# Altium schematic symbol library SEMATIK_LIB.SchLib: 632 symbols (part 18 of 21)
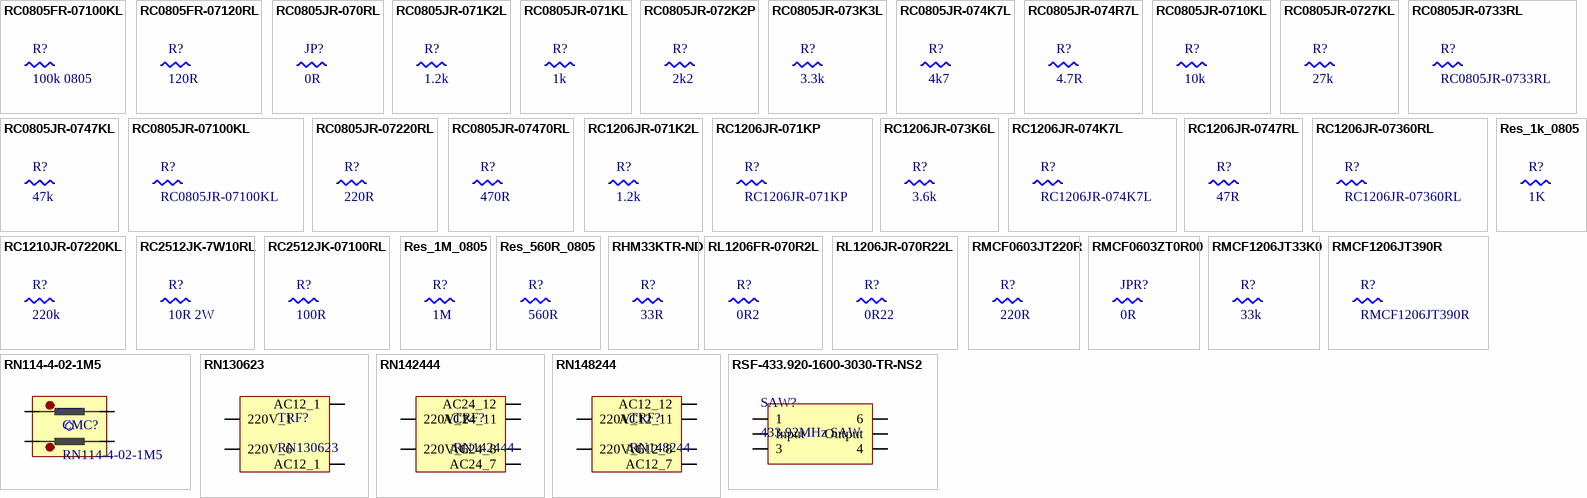
[diagram p33: symbols RC0805FR-07100KL to RSF-433.920-1600-3030-TR-NS2]

## RHM33KTR-ND
designator R?, comment 33R
RES SMD 33 OHM 5% 0.4W 0805; Manufacturer: Rohm Semiconductor; Manufacturer Part Number: ESR10EZPJ330; Power (Watts): 0.4W, 2/5W; Temperature Coefficient: ±200ppm/°C; Supplier 1: Digi-Key; RoHS: RoHS Compliant; Category: Resistors; Stock 1: 19272; Pricing 1: 1=0.1, 10=0.087, 100=0.0333, 1000=0.01464, 2500=0.01264 (USD); Packaging: Cut Tape (CT); Part Status: Active; Tolerance: ±5%; Composition: Thick Film; Features: Automotive AEC-Q200, Pulse Withstanding; Operating Temperature: -55°C ~ 155°C; Package / Case: 0805 (2012 Metric); Supplier Device Package: 0805; Size / Dimension: 0.079" L x 0.049" W (2.00mm x 1.25mm); Height - Seated (Max): 0.026" (0.65mm); Failure Rate: -; ComponentLink1URL: https://www.rohm.com/datasheet/ESR01MZPF/esr-e; ComponentLink1Description: https://www.rohm.com/datasheet/ESR01MZPF/esr-e; Supplier Part Number 1: RHM33KCT-ND
footprint R_0805
pins: 1, 2

## RL1206FR-070R2L
designator R?, comment 0R2
Res SMD 0.2 OHM 1% 1/4W 1206; Manufacturer: Yageo; Manufacturer Part Number: RL1206FR-070R2L; Resistance: 200mR; Power Rating: 250mW; Temperature Coefficient: 600ppm/°C; Supplier 1: Digi-Key; Stock 1: 92678; Pricing 1: 1 = 0,40000, 10 = 0,28700, 100 = 0,11490, 1000 = 0,05661, 2500 = 0,05245 (USD); RoHS: Yes; Case/Package: 1206; Case Code (Imperial): 1206; Case Code (Metric): 3216; Contact Plating: Tin,Matte; Min Operating Temperature: -55°C; Max Operating Temperature: 125°C; Packaging: Tape and Reel; Tolerance: 1%; Package Quantity: 1; Termination: SMD/SMT; Composition: Thick Film; Number of Terminations: 2; Max Power Dissipation: 250mW; Features: Moisture Resistant; Length: 0.122inch; Height: 0.026inch; Width: 1.6mm; Radiation Hardening: No; Lead Free: Lead Free; ComponentLink1URL: https://datasheet.ciiva.com/8886/pyu-rl-521-rohs-l-5-8886872.pdf?src-supplier=Avnet; ComponentLink1Description: https://datasheet.ciiva.com/8886/pyu-rl-521-rohs-l-5-8886872.pdf?src-supplier=Avnet; ComponentLink2URL: https://datasheet.ciiva.com/28393/pyu-rl-521-rohs-l-5-28393432.pdf?src-supplier=Avnet+Europe; ComponentLink2Description: https://datasheet.ciiva.com/28393/pyu-rl-521-rohs-l-5-28393432.pdf?src-supplier=Avnet+Europe; Supplier Part Number 1: 311-0.2LWCT-ND
footprint R_1206
footprint R_1206_NOSILK
pins: 1, 2

## RL1206JR-070R22L
designator R?, comment 0R22
Res SMD 0.22 OHM 5% 1/4W 1206; Manufacturer: Yageo; Manufacturer Part Number: RL1206JR-070R22L; Resistance: 220mR; Power Rating: 250mW; Temperature Coefficient: 600ppm/°C; Supplier 1: Digi-Key; RoHS: Yes; Category: Chip SMD Resistors; Stock 1: 5005; Pricing 1: 1=0,34000, 10=0,29000, 100=0,11350, 1000=0,04752, 2500=0,04356 (USD); Case/Package: 1206; Case Code (Imperial): 1206; Case Code (Metric): 3216; Contact Plating: Tin,Lead; Weight: 0.000571oz; Size Code: 1206; Min Operating Temperature: -55°C; Max Operating Temperature: 125°C; Tolerance: 5%; Packaging: Tape and Reel; Termination: SMD/SMT; Resistor Type: Thick Film; Package Quantity: 5000; Features: Moisture Resistant,Automotive AEC-Q200; Series: RL; Max Power Dissipation: 250mW; Number of Terminations: 2; Technology: THICK FILM; Construction: Rectangular; Length: 3.1mm; Width: 1.6mm; Height: 0.55mm; Depth: 1.6mm; Military Standard: Not; Lead Free: Lead Free; RoHS Compliant: Yes; ComponentLink1URL: https://datasheet.ciiva.com/15329/pyu-rl-521-rohs-l-5-15329110.pdf?src-supplier=Mouser; ComponentLink1Description: https://datasheet.ciiva.com/15329/pyu-rl-521-rohs-l-5-15329110.pdf?src-supplier=Mouser; Supplier Part Number 1: 13-RL1206JR-070R22LCT-ND
footprint R_1206
pins: 1, 2

## RMCF0603JT220R
designator R?, comment 220R
RES SMD 220 OHM 5% 1/10W 0603; Manufacturer: Stackpole Electronics; Manufacturer Part Number: RMCF0603JT220R; Max Power Dissipation: 100mW; Temperature Coefficient: 100ppm/°C; Supplier 1: Digi-Key; Stock 1: 231706; Pricing 1: 1 = 0,10000, 10 = 0,01400, 100 = 0,00580, 1000 = 0,00262, 2500 = 0,00228 (USD); RoHS: Yes; Mount: Surface Mount; Case/Package: 0603; Contact Plating: Tin,Matte; Case Code (Metric): 1608; Case Code (Imperial): 0603; Min Operating Temperature: -55°C; Max Operating Temperature: 155°C; Composition: Thick Film; Number of Terminations: 2; Military Standard: Not; Features: Automotive AEC-Q200; Resistance: 220R; Tolerance: 5%; Packaging: Tape and Reel; Power Rating: 100mW; Length: 1.55mm; Height: 0.022inch; Depth: 0.8mm; Width: 0.031inch; Radiation Hardening: No; Lead Free: Lead Free; ComponentLink1URL: https://datasheet.ciiva.com/26835/getdatasheetpartid-362043-26835658.pdf?src-supplier=Verical; ComponentLink1Description: https://datasheet.ciiva.com/26835/getdatasheetpartid-362043-26835658.pdf?src-supplier=Verical; Supplier Part Number 1: RMCF0603JT220RCT-ND
footprint R_0603
footprint R_0603_nosılk
footprint R_0603_short_silk
pins: 1, 2

## RMCF0603ZT0R00
designator JPR?, comment 0R
RES SMD 0 OHM JUMPER 0603 1/10W; Manufacturer: Stackpole Electronics; Manufacturer Part Number: RMCF0603ZT0R00; Resistance: 0mR; Power Rating: 100mW; Current Rating: 1A; Working Voltage: 75V; Supplier 1: Digi-Key; Stock 1: 2139035; Mount: Surface Mount; Case/Package: 0603; Case Code (Metric): 1608; Case Code (Imperial): 0603; Contact Plating: Tin,Matte; Min Operating Temperature: -55°C; Max Operating Temperature: 155°C; Packaging: Tape and Reel; Composition: Thick Film; Number of Terminations: 2; Military Standard: Not; Max Power Dissipation: 100mW; Features: Automotive AEC-Q200; Length: 1.55mm; Height: 0.022inch; Width: 0.031inch; Depth: 0.8mm; Radiation Hardening: No; Lead Free: Lead Free; Supplier Part Number 1: RMCF0603ZT0R00CT-ND
footprint R_0603
pins: 1, 2

## RMCF1206JT33K0
designator R?, comment 33k
RES SMD 33K OHM 5% 1/4W 1206; Manufacturer 1: Stackpole Electronics; Manufacturer Part Number 1: RMCF1206JT33K0; Resistance: 33kR; Power Rating: 250mW; Temperature Coefficient: 200ppm/°C; Supplier 1: Digi-Key; Description 1: RES SMD 33K OHM 5% 1/4W 1206; Stock 1: 48878; Pricing 1: 1=0.1, 10=0.028, 100=0.0116, 1000=0.0052, 2500=0.00452 (USD); Mount: Surface Mount; Case/Package: 1206; Case Code (Metric): 3216; Case Code (Imperial): 1206; Contact Plating: Tin,Matte; Min Operating Temperature: -55°C; Max Operating Temperature: 155°C; Packaging: Tape and Reel; Tolerance: 5%; Composition: Thick Film; Number of Terminations: 2; Military Standard: Not; Max Power Dissipation: 250mW; Features: Automotive AEC-Q200; Length: 0.126inch; Height: 0.028inch; Width: 0.063inch; Depth: 1.6mm; Radiation Hardening: No; Lead Free: Lead Free; ComponentLink1URL: https://www.verical.com/server-webapp/html/getDatasheet?partID=367370&src-supplier=Verical; ComponentLink1Description: https://www.verical.com/server-webapp/html/getDatasheet?partID=367370&src-supplier=Verical; Supplier Part Number 1: RMCF1206JT33K0CT-ND
footprint R_1206
pins: 1, 2

## RMCF1206JT390R
designator R?
RES SMD 390 OHM 5% 1/4W 1206; Manufacturer: Stackpole Electronics; Resistance: 390R; Power Rating: 250mW; Temperature Coefficient: 200ppm/°C; Supplier 1: Digi-Key; Manufacturer Part Number: RMCF1206JT390R; Stock 1: 44829; Pricing 1: 1=0.1, 10=0.028, 100=0.0116, 1000=0.0052, 2500=0.00452 (USD); Mount: Surface Mount; Case/Package: 1206; Case Code (Metric): 3216; Case Code (Imperial): 1206; Contact Plating: Matte,Tin; Min Operating Temperature: -55°C; Max Operating Temperature: 155°C; Packaging: Tape and Reel; Tolerance: 5%; Composition: Thick Film; Number of Terminations: 2; Military Standard: Not; Max Power Dissipation: 250mW; Features: Automotive AEC-Q200; Length: 0.126inch; Height: 0.028inch; Width: 0.063inch; Depth: 1.6mm; Radiation Hardening: No; Lead Free: Lead Free; Supplier Part Number 1: RMCF1206JT390RDKR-ND
footprint R_1206
pins: 1, 2

## RN114-4-02-1M5
designator CMC?
CMC 1.5MH 4A 2LN TH; Manufacturer 1: Schaffner; Number of Lines: 2; DC Resistance (DCR): 34mR; Voltage Rating (AC): 300V; Approvals: VDE,UR,ENEC; Supplier 1: Digi-Key; Manufacturer Part Number 1: RN114-4-02-1M5; Description 1: CMC 1.5MH 4A 2LN TH; Stock 1: 928; Pricing 1: 1=1.87, 10=1.728, 100=1.2096, 500=0.9792, 1000=0.8928, 2500=0.864 (USD); Mount: Through Hole; Min Operating Temperature: -40°C; Max Operating Temperature: 100°C; Packaging: Tray; Max Current Rating: 4A; Length: 0.886inch; Height: 0.531inch; Width: 0.846inch; Supplier Part Number 1: 817-2110-ND
footprint RN114-4/02
pins: 1 IN1, 2 OUT1, 3 IN2, 4 OUT2

## RN130623
designator TRF?
TRANSFORMER 2.8VA 9V EL30/18.5 ELKOM
footprint EL30/18.5
pins: 1 220V_1, 5 220V_6, 7 AC12_1, 9 AC12_1

## RN142444
designator TRF?
TRANSFORMER 8VA 2x12V EL42/20 ELKOM
footprint EL42/20
pins: 1 220V_1, 6 220V_6, 7 AC24_7, 8 AC24_8, 11 AC24_11, 12 AC24_12

## RN148244
designator TRF?
TRANSFORMER 10VA 2x12V EL48/20.5 ELKOM
footprint EL48/20.5
pins: 1 220V_1, 6 220V_6, 7 AC12_7, 8 AC12_8, 11 AC12_11, 12 AC12_12

## RSF-433.920-1600-3030-TR-NS2
designator SAW?, comment 433.92MHz SAW
FILTER SAW 433.92MHZ 6SMD; Manufacturer: Raltron Electronics; Manufacturer Part Number: RSF-433.920-1600-3030-TR-NS2; Supplier 1: Digi-Key; Stock 1: 865; Pricing 1: 1 = 1,36000, 10 = 1,31300, 25 = 0,96240, 50 = 0,94060, 100 = 0,91880, 250 = 0,83124, 500 = 0,80938 (USD); ComponentLink1URL: http://datasheet.octopart.com/RSF-433.920-1600-3030-TR-NS2-Raltron-Electronics-datasheet-137142251.pdf?src-supplier=Raltron+Electronics; ComponentLink1Description: http://datasheet.octopart.com/RSF-433.920-1600-3030-TR-NS2-Raltron-Electronics-datasheet-137142251.pdf?src-supplier=Raltron+Electronics; Supplier Part Number 1: 2151-RSF-433.920-1600-3030-TR-NS2CT-ND
footprint SAW_FILTER_RSF-433.920-1600-3030
pins: 1, 2 Input, 3, 4, 5 Output, 6

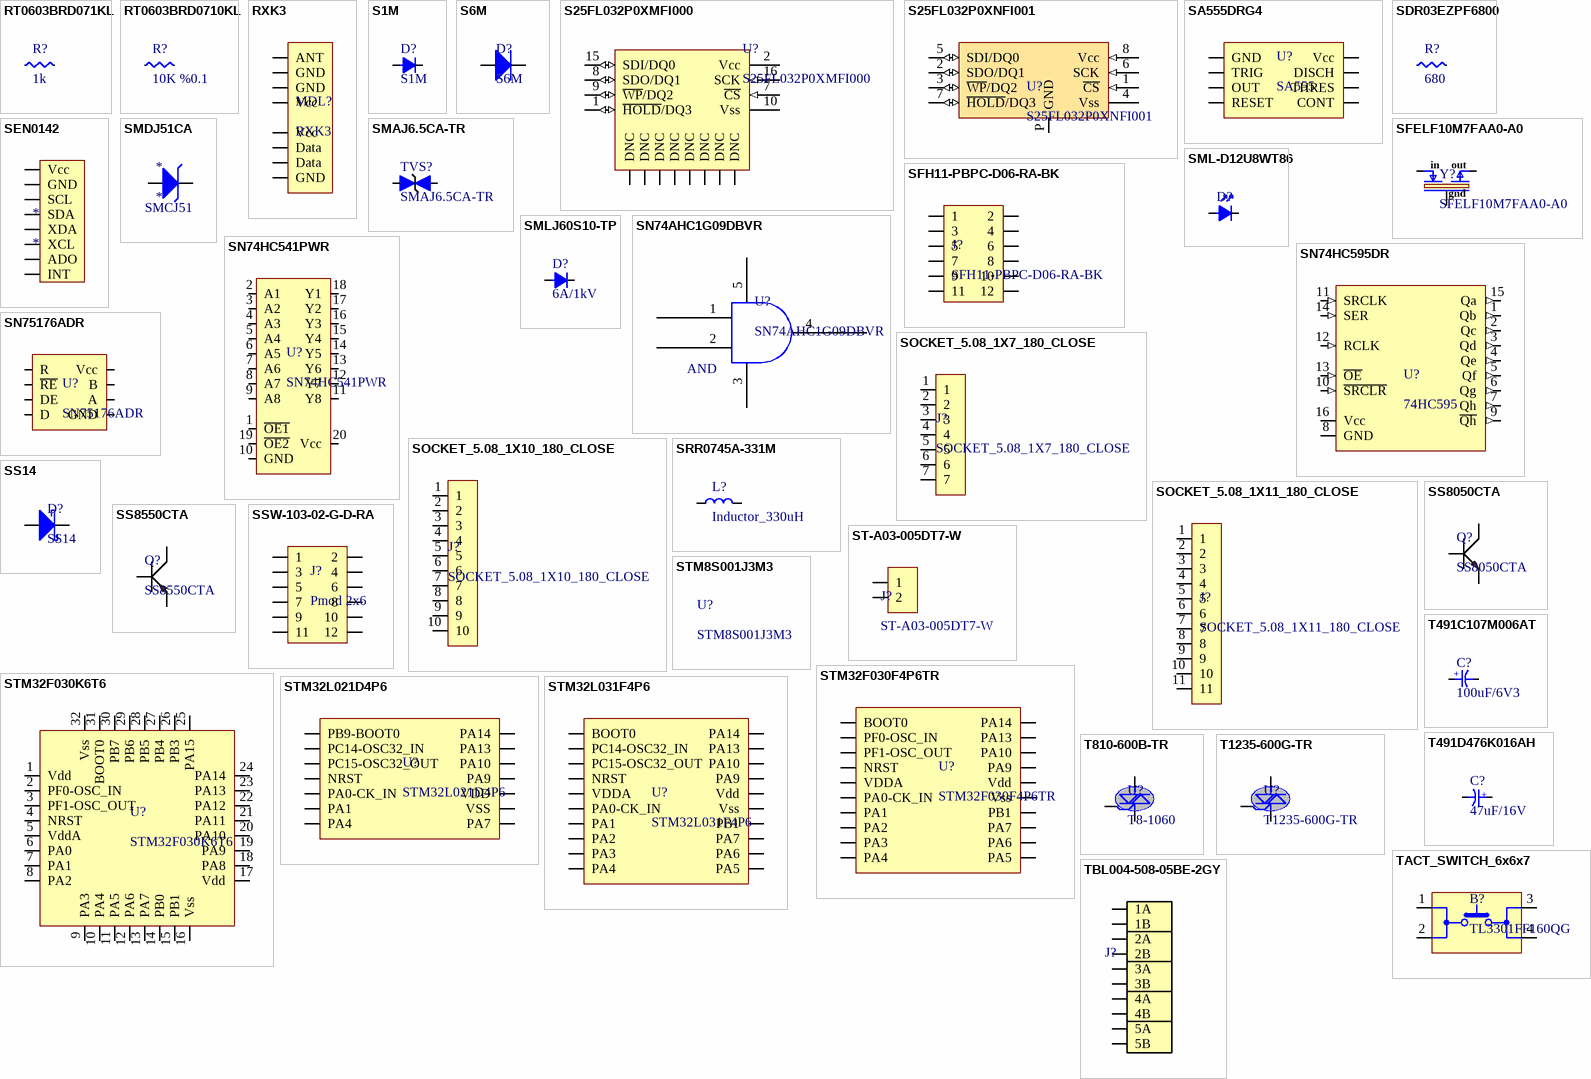
[diagram p14: symbols RT0603BRD071KL to TBL004-508-05BE-2GY]

## RT0603BRD071KL
designator R?, comment 1k
RES SMD 1K OHM 0.1% 1/10W 0603; Manufacturer: Yageo; Manufacturer Part Number: RT0603BRD071KL; Power (Watts): 0.1W, 1/10W; Temperature Coefficient: ±25ppm/°C; Supplier 1: Digi-Key; RoHS: RoHS Compliant; Category: Resistors; Stock 1: 133544; Pricing 1: 1=0.39, 10=0.332, 100=0.1298, 1000=0.05435, 2500=0.04982 (USD); Packaging: Cut Tape (CT); Part Status: Active; Tolerance: ±0.1%; Composition: Thin Film; Features: -; Operating Temperature: -55°C ~ 155°C; Package / Case: 0603 (1608 Metric); Supplier Device Package: 0603; Size / Dimension: 0.063" L x 0.032" W (1.60mm x 0.80mm); Height - Seated (Max): 0.022" (0.55mm); Failure Rate: -; ComponentLink1URL: http://www.yageo.com/documents/recent/PYu-RT_1-to-0.01_RoHS_L_9.pdf; ComponentLink1Description: http://www.yageo.com/documents/recent/PYu-RT_1-to-0.01_RoHS_L_9.pdf; Supplier Part Number 1: YAG1237CT-ND
footprint R_0603
pins: 1, 2

## RT0603BRD0710KL
designator R?, comment 10K %0.1
RES SMD 10K OHM 0.1% 1/10W 0603; Manufacturer: Yageo; Manufacturer Part Number: RT0603BRD0710KL; Resistance: 10kR; Power Rating: 100mW; Voltage Rating: 75V; Temperature Coefficient: 25ppm/°C; Supplier 1: Digi-Key; RoHS: Yes; Category: Chip SMD Resistors; Stock 1: 200225; Pricing 1: 1=0,34000, 10=0,28800, 100=0,11260, 500=0,06812, 1000=0,04716, 2500=0,04322 (USD); Case/Package: 0603; Case Code (Metric): 1608; Case Code (Imperial): 0603; Weight: 7.1E-05oz; Min Operating Temperature: -55°C; Max Operating Temperature: 125°C; Package Quantity: 5000; Packaging: Tape and Reel; Resistor Type: Thin Film; Number of Terminations: 2; Termination: SMD/SMT; Max Power Dissipation: 100mW; Voltage Rating (DC): 75V; Working Voltage: 75V; Features: Moisture Resistant; Series: RT; Construction: Rectangular; Technology: THIN FILM; Length: 1.6mm; Width: 0.031inch; Height: 0.022inch; Depth: 0.8mm; Military Standard: Not; Lead Free: Lead Free; RoHS Compliant: Yes; ComponentLink1URL: https://datasheet.ciiva.com/5624/pyu-rt-1-to-0-05-rohs-l-4-5624351.pdf?src-supplier=Mouser; ComponentLink1Description: https://datasheet.ciiva.com/5624/pyu-rt-1-to-0-05-rohs-l-4-5624351.pdf?src-supplier=Mouser; ComponentLink2URL: https://datasheet.ciiva.com/29721/pyu-rt-1-to-0-05-rohs-l-4-29721177.pdf?src-supplier=Digi-Key; ComponentLink2Description: https://datasheet.ciiva.com/29721/pyu-rt-1-to-0-05-rohs-l-4-29721177.pdf?src-supplier=Digi-Key; Supplier Part Number 1: YAG1236CT-ND
footprint R_0603
footprint R_0603_short_silk
footprint R_0603_nosılk
pins: 1, 2

## RXK3
designator MDL?
RF RECEIVER MODULE 433MHz
footprint RXK3_ALICI
pins: 1 ANT, 2 GND, 3 GND, 4 Vcc, 5 Vcc, 6 Data, 7 Data, 8 GND

## S1M
designator D?
DIODE GEN PURP 1KV 1A SMA; Manufacturer 1: ON Semiconductor / Fairchild; Forward Voltage: 1.1V; Element Configuration: Single; Reverse Recovery Time: 1.8us; Peak Non-Repetitive Surge Current: 30A; Polarity: Standard; Capacitance: 12pF; Peak Reverse Current: 1uA; Power Dissipation: 1.4W; Max Surge Current: 40A; Recovery Time: 1800ns; Supplier 1: Digi-Key; Manufacturer Part Number 1: S1M; Stock 1: 186500; Pricing 1: 1=0,24000, 10=0,19800, 25=0,16560, 100=0,08100, 250=0,07968, 500=0,06752, 1000=0,04692, 2500=0,04361 (USD); RoHS: Yes; Mount: Surface Mount; Case/Package: SMA; Number of Pins: 2; Contact Plating: Tin,Matte; Min Operating Temperature: -55°C; Max Operating Temperature: 150°C; Max Repetitive Reverse Voltage (Vrrm): 1kV; Max Forward Surge Current (Ifsm): 30A; Voltage Rating (DC): 1kV; Current Rating: 1A; Output Current: 1A; Packaging: Tape and Reel; Forward Current: 1A; Current: 1A; Voltage: 1kV; Max Reverse Voltage (DC): 1kV; Reverse Voltage: 1kV; Average Rectified Current: 1A; Package Quantity: 1; Termination: SMD/SMT; Length: 4.75mm; Height: 2.2mm; Width: 5.28mm; Radiation Hardening: No; REACH SVHC: No SVHC; Lead Free: Lead Free; ComponentLink1URL: https://datasheet.ciiva.com/27051/1072719-27051364.pdf?src-supplier=Jameco; ComponentLink1Description: https://datasheet.ciiva.com/27051/1072719-27051364.pdf?src-supplier=Jameco; ComponentLink2URL: https://datasheet.ciiva.com/4452/s1m-191340-4452980.pdf?src-supplier=Mouser; ComponentLink2Description: https://datasheet.ciiva.com/4452/s1m-191340-4452980.pdf?src-supplier=Mouser; ComponentLink3URL: https://datasheet.ciiva.com/910/s1a-910496.pdf?src-supplier=Digi-Key; ComponentLink3Description: https://datasheet.ciiva.com/910/s1a-910496.pdf?src-supplier=Digi-Key; ComponentLink4URL: https://datasheet.ciiva.com/8303/s1k-8303577.pdf?src-supplier=Avnet; ComponentLink4Description: https://datasheet.ciiva.com/8303/s1k-8303577.pdf?src-supplier=Avnet; ComponentLink5URL: https://datasheet.ciiva.com/7965/96437-7965306.pdf?src-supplier=Element14; ComponentLink5Description: https://datasheet.ciiva.com/7965/96437-7965306.pdf?src-supplier=Element14; ComponentLink6URL: https://datasheet.ciiva.com/5739/1766308-5739339.pdf?src-supplier=Farnell; ComponentLink6Description: https://datasheet.ciiva.com/5739/1766308-5739339.pdf?src-supplier=Farnell; ComponentLink7URL: https://datasheet.ciiva.com/7965/1766308-7965189.pdf?src-supplier=Element14; ComponentLink7Description: https://datasheet.ciiva.com/7965/1766308-7965189.pdf?src-supplier=Element14; ComponentLink8URL: https://datasheet.ciiva.com/22651/1766308-22651974.pdf?src-supplier=Element14; ComponentLink8Description: https://datasheet.ciiva.com/22651/1766308-22651974.pdf?src-supplier=Element14; ComponentLink9URL: https://datasheet.ciiva.com/7965/1766308-7965307.pdf?src-supplier=Element14; ComponentLink9Description: https://datasheet.ciiva.com/7965/1766308-7965307.pdf?src-supplier=Element14; Supplier Part Number 1: S1MFSCT-ND
footprint DO214AC(SMA)
pins: A Anot, K Katot

## S6M
designator D?
Diode_S6M_DO214AB
footprint DO214AB
pins: A Anot, K Katot

## S25FL032P0XMFI000
designator U?
IC FLASH 32M SPI 104MHZ 16SOIC; Manufacturer: Cypress; Memory Type: FLASH,NOR; Interface: SPI,Serial; Supplier 1: Digi-Key; Manufacturer Part Number: S25FL032P0XMFI000; Stock 1: 0; RoHS: Yes; Case/Package: SOIC; Min Operating Temperature: -40°C; Max Operating Temperature: 85°C; Packaging: Tray; Frequency: 104MHz; ComponentLink1URL: http://www.cypress.com/file/196861/download?src-supplier=Digi-Key; ComponentLink1Description: http://www.cypress.com/file/196861/download?src-supplier=Digi-Key; Supplier Part Number 1: 428-3838-ND
footprint SO16
pins: 1 ~{HOLD}/DQ3 (io), 2 Vcc (power), 3 DNC, 4 DNC, 5 DNC, 6 DNC, 7 ~{CS} (in), 8 SDO/DQ1 (io), 9 ~{WP}/DQ2 (io), 10 Vss (power), 11 DNC, 12 DNC, 13 DNC, 14 DNC, 15 SDI/DQ0 (io), 16 SCK (in)

## S25FL032P0XNFI001
designator U?
IC FLASH 32M SPI 104MHZ 8WSON; Manufacturer: Spansion; Interface: SPI,Serial; Memory Type: FLASH,NOR; Density: 32Mb; Address Bus Width: 1b; Page Size: 256B; Memory Size: 64KB; Data Bus Width: 8b; Sync/Async: Synchronous; Max Supply Voltage: 3.6V; Min Supply Voltage: 2.7V; Nominal Supply Current: 38mA; Access Time: 8ns; Supplier 1: Farnell; Manufacturer Part Number: S25FL032P0XNFI001; Stock 1: 0; Pricing 1: 1 = 1,66000, 10 = 1,37000, 25 = 1,23000, 100 = 1,14000, 1000 = 1,06000 (EUR); RoHS: Yes; Mount: Surface Mount; Number of Pins: 8; Min Operating Temperature: -40°C; Max Operating Temperature: 85°C; Frequency: 104MHz; Packaging: Rail/Tube; Max Frequency: 104MHz; Word Size: 8b; Package Quantity: 82; Radiation Hardening: No; ComponentLink1URL: https://datasheet.ciiva.com/26012/s25fl032p-00-26012730.pdf?src-supplier=Avnet+Europe; ComponentLink1Description: https://datasheet.ciiva.com/26012/s25fl032p-00-26012730.pdf?src-supplier=Avnet+Europe; ComponentLink2URL: https://datasheet.ciiva.com/15194/getdatasheetpartid-499025-15194138.pdf?src-supplier=Verical; ComponentLink2Description: https://datasheet.ciiva.com/15194/getdatasheetpartid-499025-15194138.pdf?src-supplier=Verical; ComponentLink3URL: https://datasheet.ciiva.com/3190/s25fl032p-00-3190732.pdf?src-supplier=Avnet; ComponentLink3Description: https://datasheet.ciiva.com/3190/s25fl032p-00-3190732.pdf?src-supplier=Avnet; ComponentLink4URL: https://datasheet.ciiva.com/6615/s25fl032p-00-6615676.pdf?src-supplier=Digi-Key; ComponentLink4Description: https://datasheet.ciiva.com/6615/s25fl032p-00-6615676.pdf?src-supplier=Digi-Key; Supplier Part Number 1: 2749241
footprint 8WSON
pins: 1 ~{CS} (in), 2 SDO/DQ1 (io), 3 ~{WP}/DQ2 (io), 4 Vss (power), 5 SDI/DQ0 (io), 6 SCK (in), 7 ~{HOLD}/DQ3 (io), 8 Vcc (in), P GND

## SA555DRG4
designator U?, comment SA555
IC OSC SGL TIMER 100KHZ 8-SOIC; Manufacturer: Texas Instruments; Manufacturer Part Number: SA555DRG4; Min Supply Voltage: 4.5V; Max Supply Voltage: 16V; Nominal Supply Current: 2mA; Operating Supply Current: 10mA; Number of Timers/Counters: 1; Quiescent Current: 15mA; High Level Output Current: -200mA; Low Level Output Current: 200mA; Supplier 1: Digi-Key; Stock 1: 1016; Pricing 1: 1 = 0,39000, 10 = 0,31500, 25 = 0,28800, 100 = 0,21440, 250 = 0,19432, 500 = 0,16080, 1000 = 0,12060 (USD); RoHS: Yes; Mount: Surface Mount; Case/Package: SOIC; Number of Pins: 8; Weight: 0.002561oz; Min Operating Temperature: -40°C; Max Operating Temperature: 85°C; Packaging: Tape and Reel; Package Quantity: 2500; Frequency: 100kHz; Radiation Hardening: No; Lead Free: Lead Free; ComponentLink1URL: https://datasheet.ciiva.com/26943/getdatasheetpartid-624446-26943897.pdf?src-supplier=Verical; ComponentLink1Description: https://datasheet.ciiva.com/26943/getdatasheetpartid-624446-26943897.pdf?src-supplier=Verical; ComponentLink2URL: https://datasheet.ciiva.com/14274/se555m-14274518.pdf?src-supplier=Avnet; ComponentLink2Description: https://datasheet.ciiva.com/14274/se555m-14274518.pdf?src-supplier=Avnet; ComponentLink3URL: https://datasheet.ciiva.com/1235/sa555-1235928.pdf?src-supplier=Digi-Key; ComponentLink3Description: https://datasheet.ciiva.com/1235/sa555-1235928.pdf?src-supplier=Digi-Key; Supplier Part Number 1: 296-48948-1-ND
footprint SOP8
pins: 1 GND (power), 2 TRIG (power), 3 OUT (power), 4 RESET (power), 5 CONT (power), 6 THRES (power), 7 DISCH (power), 8 Vcc (power)

## SDR03EZPF6800
designator R?, comment 680
RES SMD 680 OHM 1% 0.3W 0603; Manufacturer: ROHM; Manufacturer Part Number: SDR03EZPF6800; Power Dissipation: 300mW; Value: 680Ω; Temperature Coefficient: 100ppm/°C; Working Voltage: 150V; Supplier: Farnell; Supplier Part Number: 4165283RL; RoHS: Compliant; Category: Chip SMD Resistors; Stock: 3850; Pricing: 500=0,0297, 1000=0,0278, 2500=0,0249, 5000=0,0239 (EUR); Height: 450µm; Lifecycle Status: Production; Max Operating Temperature: 155°C; Min Operating Temperature: -55°C; Mounting Technology: Surface Mount; Number of Terminals: 2; REACH SVHC: Yes; Tolerance: 1%; Width: 800µm; ComponentLink1URL: https://datasheet.octopart.com:443/SDR03EZPF6800-ROHM-datasheet-182147696.pdf?src-supplier=IHS; ComponentLink1Description: https://datasheet.octopart.com:443/SDR03EZPF6800-ROHM-datasheet-182147696.pdf?src-supplier=IHS
footprint R_0603
footprint R_0603_nosılk
footprint R_0603_short_silk
pins: 1, 2

## SEN0142
designator *
6 DOF Sensor - MPU6050; Manufacturer: DFRobot; Manufacturer Part Number: SEN0142; Sensor Type: Accelerometer,Gyroscope,3 Axis; Interface: I2C; Supplier 1: Digi-Key; RoHS: No; Stock 1: 456; Pricing 1: 1=9,90000 (USD); ComponentLink1URL: https://media.digikey.com/pdf/Data%20Sheets/DFRobot%20PDFs/SEN0142_Web.pdf?src-supplier=Digi-Key; ComponentLink1Description: https://media.digikey.com/pdf/Data%20Sheets/DFRobot%20PDFs/SEN0142_Web.pdf?src-supplier=Digi-Key; ComponentLink2URL: http://www.jameco.com/Jameco/Products/ProdDS/2190864.pdf?src-supplier=Jameco; ComponentLink2Description: http://www.jameco.com/Jameco/Products/ProdDS/2190864.pdf?src-supplier=Jameco; Supplier Part Number 1: 1738-1070-ND
pins: 1 Vcc, 2 GND, 3 SCL, 4 SDA, 5 XDA, 6 XCL, 7 ADO, 8 INT

## SFELF10M7FAA0-A0
designator Y?
Signal Conditioning 10.7MHZ 2 ELEM Thru 280KHz MS5; Manufacturer 1: Murata; Impedance: 330R; Insertion Loss: 2.5dB; Supplier 1: Digi-Key; Manufacturer Part Number 1: SFELF10M7FAA0-A0; Description 1: Signal Conditioning 10.7MHZ 2 ELEM Thru 280KHz MS5; Stock 1: 0; Mount: Through Hole; Case/Package: Radial; Min Operating Temperature: -10°C; Max Operating Temperature: 40°C; Frequency: 10.7MHz; Bandwidth: 280kHz; Package Quantity: 1500; Packaging: Tape and Reel; Composition: Ceramic; Length: 0.276inch; Height: 0.354inch; Width: 0.118inch; ComponentLink1URL: http://search.murata.co.jp/Ceramy/image/img/w_hinm/L0180E.pdf?src-supplier=Digi-Key; ComponentLink1Description: http://search.murata.co.jp/Ceramy/image/img/w_hinm/L0180E.pdf?src-supplier=Digi-Key; ComponentLink2URL: http://www.murata.com/en-eu/products/productdata/8796793438238/L0180E.pdf?src-supplier=Digi-Key; ComponentLink2Description: http://www.murata.com/en-eu/products/productdata/8796793438238/L0180E.pdf?src-supplier=Digi-Key; Supplier Part Number 1: 490-8570-6-ND
footprint SIP-3
pins: 1 In, 2 G, 3 Out
text: in; out; gnd

## SFH11-PBPC-D06-RA-BK
designator J?
Conn Hdr 12POS 0.1 Gold Pcb R/a; Manufacturer: Sullins; Connector Type: Socket,Header; Number of Positions: 12; Row Spacing: 0.1inch; Supplier 1: Digi-Key; Manufacturer Part Number: SFH11-PBPC-D06-RA-BK; Stock 1: 0; Pricing 1: 1000 = 0,53136 (USD); RoHS: Yes; Mount: Through Hole; Contact Plating: Gold; Color: Black; Number of Rows: 2; Packaging: Tray; Package Quantity: 1000; Termination: Solder; Pitch: 0.1inch; ComponentLink1URL: http://sullinscorp.com/catalogs/147_PAGE119_.100_SFH11_SERIES_FEMALE_HDR_ST_RA.pdf?src-supplier=Digi-Key; ComponentLink1Description: http://sullinscorp.com/catalogs/147_PAGE119_.100_SFH11_SERIES_FEMALE_HDR_ST_RA.pdf?src-supplier=Digi-Key; Supplier Part Number 1: SFH11-PBPC-D06-RA-BK-ND
footprint Pmod_2x6_90DRC
pins: 1, 2, 3, 4, 5, 6, 7, 8, 9, 10, 11, 12

## SMAJ6.5CA-TR
designator TVS?
TVS DIODE 6.5V 14.5V SMA; Manufacturer: STMicroelectronics; Direction: Bidirectional; Reverse Breakdown Voltage: 7.2V; Max Surge Current: 35.7A; Capacitance: 3.1nF; Number of Bidirectional Channels: 1; Peak Pulse Power: 400W; Power Line Protection: No; Test Current: 10mA; Max Reverse Leakage Current: 20uA; Max Breakdown Voltage: 7.58V; Peak Pulse Current: 160A; Element Configuration: Single; Supplier 1: Digi-Key; Manufacturer Part Number: SMAJ6.5CA-TR; Stock 1: 5362; Pricing 1: 1=0.37, 10=0.302, 100=0.2056, 500=0.15418, 1000=0.11563 (USD); Mount: Surface Mount; Case/Package: SMA; Number of Pins: 2; Min Operating Temperature: -55°C; Max Operating Temperature: 150°C; Package Quantity: 1; Packaging: Tape and Reel; Operating Supply Voltage: 6.5V; Reverse Standoff Voltage: 6.5V; Min Breakdown Voltage: 7.2V; Clamping Voltage: 14.5V; Number of Channels: 1; Polarity: Bidirectional; Breakdown Voltage: 7.2V; Termination: SMD/SMT; Number of Elements: 1; Power Dissipation: 400W; Leakage Current: 20uA; Voltage Rating (DC): 6.5V; Composition: Zener; Length: 4.6mm; Height: 2.45mm; Width: 2.9mm; Radiation Hardening: No; REACH SVHC: No SVHC; Lead Free: Lead Free; ComponentLink1URL: http://www.st.com/content/ccc/resource/technical/document/datasheet/ff/c0/80/cc/19/4c/45/af/CD00001333.pdf/files/CD00001333.pdf/_jcr_content/translations/en.CD00001333.pdf?src-supplier=Digi-Key; ComponentLink1Description: http://www.st.com/content/ccc/resource/technical/document/datasheet/ff/c0/80/cc/19/4c/45/af/CD00001333.pdf/files/CD00001333.pdf/_jcr_content/translations/en.CD00001333.pdf?src-supplier=Digi-Key; ComponentLink2URL: http://www.st.com/web/en/resource/technical/document/datasheet/CD00001333.pdf?src-supplier=Future+Electronics; ComponentLink2Description: http://www.st.com/web/en/resource/technical/document/datasheet/CD00001333.pdf?src-supplier=Future+Electronics; ComponentLink3URL: http://www.mouser.com/ds/2/389/CD00001333-250677.pdf?src-supplier=Mouser; ComponentLink3Description: http://www.mouser.com/ds/2/389/CD00001333-250677.pdf?src-supplier=Mouser; ComponentLink4URL: http://www.farnell.com/datasheets/1724007.pdf?src-supplier=Element14; ComponentLink4Description: http://www.farnell.com/datasheets/1724007.pdf?src-supplier=Element14; ComponentLink5URL: http://www.st.com/web/en/resource/technical/document/datasheet/CD00001333.pdf?src-supplier=Avnet+Europe; ComponentLink5Description: http://www.st.com/web/en/resource/technical/document/datasheet/CD00001333.pdf?src-supplier=Avnet+Europe; ComponentLink6URL: http://www.produktinfo.conrad.com/datenblaetter/1100000-1199999/001184289-da-01-en-TRANSIL_400W_6_SMAJ6_5CA_TR_DO_214AC_STM.pdf?src-supplier=Conrad; ComponentLink6Description: http://www.produktinfo.conrad.com/datenblaetter/1100000-1199999/001184289-da-01-en-TRANSIL_400W_6_SMAJ6_5CA_TR_DO_214AC_STM.pdf?src-supplier=Conrad; Supplier Part Number 1: 497-7896-1-ND
footprint DO214AC(SMA)_12
pins: 1, 2

## SMDJ51CA
designator *
TVS DIODE 51VWM 82.4VC SMD; Manufacturer: Littelfuse Inc.; Manufacturer Part Number: SMDJ51CA; Voltage - Reverse Standoff (Typ): 51V; Voltage - Breakdown (Min): 56.7V; Voltage - Clamping (Max) @ Ipp: 82.4V; Current - Peak Pulse (10/1000µs): 36.4A; Power - Peak Pulse: 3000W (3kW); Power Line Protection: No; Supplier 1: Digi-Key; RoHS: RoHS Compliant; Category: Circuit Protection; Stock 1: 4283; Pricing 1: 1=1.84, 10=1.661, 25=1.4832, 100=1.3348, 250=1.18648, 500=1.03816, 1000=0.8602 (USD); Packaging: Cut Tape (CT); Part Status: Active; Type: Zener; Applications: General Purpose; Capacitance @ Frequency: -; Operating Temperature: -65°C ~ 150°C (TJ); Mounting Type: Surface Mount; Package / Case: DO-214AB, SMC; Supplier Device Package: DO-214AB (SMCJ); ComponentLink1URL: http://www.littelfuse.com/~/media/electronics/datasheets/tvs_diodes/littelfuse_tvs_diode_smdj_datasheet.pdf.pdf; ComponentLink1Description: http://www.littelfuse.com/~/media/electronics/datasheets/tvs_diodes/littelfuse_tvs_diode_smdj_datasheet.pdf.pdf; Supplier Part Number 1: SMDJ51CACT-ND
footprint TVS_Diode
pins: 1 Katot, 2 Anot
text: SMCJ51

## SML-D12U8WT86
designator D?  (value not drawn)
LED RED DIFFUSED 0603 SMD
footprint LED_0603
pins: 1 Katot, 2 Anot

## SMLJ60S10-TP
designator D?, comment 6A/1kV
DIODE GEN PURP 1KV 6A DO214AB; Manufacturer: MCC; Manufacturer Part Number: SMLJ60S10-TP; Peak Reverse Current: 5uA; Element Configuration: Single; Max Surge Current: 200A; Supplier 1: Digi-Key; Stock 1: 7362; Pricing 1: 1 = 0,92000, 10 = 0,82600, 25 = 0,78400, 100 = 0,58800, 250 = 0,58240, 500 = 0,49840, 1000 = 0,40600 (USD); RoHS: Yes; Mount: Surface Mount; Number of Pins: 2; Average Rectified Current: 6A; Reverse Voltage: 1kV; Max Reverse Voltage (DC): 1kV; Packaging: Tape and Reel; Package Quantity: 1; Lead Free: Lead Free; ComponentLink1URL: https://datasheet.ciiva.com/915/smlj60s05smlj60s10do-214ab-915015.pdf?src-supplier=Digi-Key; ComponentLink1Description: https://datasheet.ciiva.com/915/smlj60s05smlj60s10do-214ab-915015.pdf?src-supplier=Digi-Key; ComponentLink2URL: https://datasheet.ciiva.com/915/smlj60s05smlj60s10do-214ab-915017.pdf?src-supplier=Digi-Key; ComponentLink2Description: https://datasheet.ciiva.com/915/smlj60s05smlj60s10do-214ab-915017.pdf?src-supplier=Digi-Key; ComponentLink3URL: https://datasheet.ciiva.com/915/smlj60s05smlj60s10do-214ab-915016.pdf?src-supplier=Digi-Key; ComponentLink3Description: https://datasheet.ciiva.com/915/smlj60s05smlj60s10do-214ab-915016.pdf?src-supplier=Digi-Key; Supplier Part Number 1: SMLJ60S10-TPMSDKR-ND
footprint DO214AB
pins: A Anot, K Katot

## SN74AHC1G09DBVR
designator U?
IC GATE AND 1CH 2-INP SOT-23-5; Manufacturer: Texas Instruments; Logic Type: AND Gate; Number of Inputs: 2; Voltage - Supply: 2 V ~ 5.5 V; Current - Output High, Low: -, 8mA; Logic Level - Low: 0.5 V ~ 1.65 V; Logic Level - High: 1.5 V ~ 3.85 V; Max Propagation Delay @ V, Max CL: 7.5ns @ 5V, 50pF; Supplier 1: Digi-Key; Manufacturer Part Number: SN74AHC1G09DBVR; RoHS: RoHS Compliant; Category: Integrated Circuits (ICs); Stock 1: 6689; Pricing 1: 1=0.42, 10=0.314, 100=0.1957, 500=0.1339, 1000=0.103 (USD); Packaging: Cut Tape (CT); Part Status: Active; Features: Open Drain; Operating Temperature: -55°C ~ 125°C; Mounting Type: Surface Mount; Supplier Device Package: SOT-23-5; Package / Case: SC-74A, SOT-753; ComponentLink1URL: http://www.ti.com/lit/ds/symlink/sn74ahc1g09.pdf; ComponentLink1Description: http://www.ti.com/lit/ds/symlink/sn74ahc1g09.pdf; Supplier Part Number 1: 296-29202-1-ND
footprint DBV_SOT_23_5
pins: 1, 2, 3, 4, 5
text: AND

## SN74HC541PWR
designator U?
IC BUFF/DVR TRI-ST 8BIT 20TSSOP; Manufacturer: Texas Instruments; Number of Elements: 1; Logic Function: Buffer,Inverting; Propagation Delay: 28ns; Min Supply Voltage: 2V; Max Supply Voltage: 6V; Number of Channels: 8; Operating Supply Voltage: 5V; High Level Output Current: -7.8mA; Low Level Output Current: 7.8mA; Polarity: Non-Inverting; Turn-On Delay Time: 165ns; Quiescent Current: 8uA; Number of Bits: 6; Supplier 1: Digi-Key; Manufacturer Part Number: SN74HC541PWR; Stock 1: 13690; Pricing 1: 1=0.6, 10=0.51, 100=0.3807, 500=0.29912, 1000=0.23113 (USD); Mount: Surface Mount; Case/Package: TSSOP; Number of Pins: 20; Contact Plating: Gold; Min Operating Temperature: -40°C; Max Operating Temperature: 85°C; Packaging: Tape and Reel; Package Quantity: 2000; Number of Inputs: 8; Number of Outputs: 8; Number of Bits per Element: 8; Number of Input Lines: 8; Number of Output Lines: 8; Length: 6.5mm; Height: 1.15mm; Width: 4.4mm; Radiation Hardening: No; REACH SVHC: No SVHC; Lead Free: Lead Free; ComponentLink1URL: http://www.ti.com/lit/ds/symlink/sn74hc541.pdf?src-supplier=Digi-Key; ComponentLink1Description: http://www.ti.com/lit/ds/symlink/sn74hc541.pdf?src-supplier=Digi-Key; ComponentLink2URL: http://www.farnell.com/datasheets/1965591.pdf?src-supplier=Element14; ComponentLink2Description: http://www.farnell.com/datasheets/1965591.pdf?src-supplier=Element14; ComponentLink3URL: http://www.ti.com/general/docs/lit/getliterature.tsp?genericPartNumber=SN74HC541&&fileType=pdf&src-supplier=Avnet; ComponentLink3Description: http://www.ti.com/general/docs/lit/getliterature.tsp?genericPartNumber=SN74HC541&&fileType=pdf&src-supplier=Avnet; ComponentLink4URL: http://www.ti.com/lit/ds/symlink/sn54hc541.pdf?src-supplier=Avnet+Europe; ComponentLink4Description: http://www.ti.com/lit/ds/symlink/sn54hc541.pdf?src-supplier=Avnet+Europe; ComponentLink5URL: http://www.produktinfo.conrad.com/datenblaetter/1000000-1099999/001016758-da-01-en-IC_B_DVR_8BIT_SN74HC541PWR_TSSOP_20_TID.pdf?src-supplier=Conrad; ComponentLink5Description: http://www.produktinfo.conrad.com/datenblaetter/1000000-1099999/001016758-da-01-en-IC_B_DVR_8BIT_SN74HC541PWR_TSSOP_20_TID.pdf?src-supplier=Conrad; Supplier Part Number 1: 296-8335-1-ND
footprint TSSOP20
pins: 1 ~{OE1}, 2 A1, 3 A2, 4 A3, 5 A4, 6 A5, 7 A6, 8 A7, 9 A8, 10 GND, 11 Y8, 12 Y7, 13 Y6, 14 Y5, 15 Y4, 16 Y3, 17 Y2, 18 Y1, 19 ~{OE2}, 20 Vcc

## SN74HC595DR
designator U?, comment 74HC595
IC 74Series Shift Register 1 Element 8 Bit 16-SOIC; Manufacturer: Texas Instruments; Manufacturer Part Number: SN74HC595DR; Direction: Unidirectional; Max Supply Voltage: 6V; Min Supply Voltage: 2V; Propagation Delay: 250ns; Number of Elements: 1; Operating Supply Voltage: 5V; Frequency: 42MHz; Number of Circuits: 4; Number of Bits: 8; Number of Output Lines: 10; Max Input Current: 1uA; Quiescent Current: 8uA; Supplier 1: Digi-Key; Stock 1: 27779; Pricing 1: 1 = 0,39000, 10 = 0,33800, 25 = 0,31520, 100 = 0,25200, 250 = 0,23400, 500 = 0,19800, 1000 = 0,15300 (USD); RoHS: Yes; Mount: Surface Mount; Case/Package: SOIC; Number of Pins: 16; Weight: 0.004998oz; Contact Plating: Gold; Min Operating Temperature: -40°C; Max Operating Temperature: 85°C; Packaging: Tape and Reel; Package Quantity: 2500; Logic Function: Shift Register; Number of Bits per Element: 8; Turn-On Delay Time: 250ns; Termination: SMD/SMT; Length: 9.9mm; Height: 1.58mm; Width: 3.91mm; Radiation Hardening: No; REACH SVHC: No SVHC; Lead Free: Lead Free; ComponentLink1URL: https://datasheet.ciiva.com/34301/916385-34301758.pdf?src-supplier=Jameco; ComponentLink1Description: https://datasheet.ciiva.com/34301/916385-34301758.pdf?src-supplier=Jameco; ComponentLink2URL: https://datasheet.ciiva.com/15093/getdatasheetpartid-134875-15093436.pdf?src-supplier=Verical; ComponentLink2Description: https://datasheet.ciiva.com/15093/getdatasheetpartid-134875-15093436.pdf?src-supplier=Verical; ComponentLink3URL: https://datasheet.ciiva.com/22696/1831198-22696812.pdf?src-supplier=Element14; ComponentLink3Description: https://datasheet.ciiva.com/22696/1831198-22696812.pdf?src-supplier=Element14; ComponentLink4URL: https://datasheet.ciiva.com/26866/sn74hc595dr-26866161.pdf?src-supplier=IIIC; ComponentLink4Description: https://datasheet.ciiva.com/26866/sn74hc595dr-26866161.pdf?src-supplier=IIIC; ComponentLink5URL: https://datasheet.ciiva.com/1886/sn74hc595-1886280.pdf?src-supplier=Digi-Key; ComponentLink5Description: https://datasheet.ciiva.com/1886/sn74hc595-1886280.pdf?src-supplier=Digi-Key; ComponentLink6URL: https://datasheet.ciiva.com/1886/sn74hc595-1886281.pdf?src-supplier=Digi-Key; ComponentLink6Description: https://datasheet.ciiva.com/1886/sn74hc595-1886281.pdf?src-supplier=Digi-Key; ComponentLink7URL: https://datasheet.ciiva.com/1509/1831198-1509483.pdf?src-supplier=Element14; ComponentLink7Description: https://datasheet.ciiva.com/1509/1831198-1509483.pdf?src-supplier=Element14; ComponentLink8URL: https://datasheet.ciiva.com/46381/1886142-46381835.pdf?src-supplier=Element14; ComponentLink8Description: https://datasheet.ciiva.com/46381/1886142-46381835.pdf?src-supplier=Element14; ComponentLink9URL: https://datasheet.ciiva.com/14294/sn74hc595-14294991.pdf?src-supplier=Avnet; ComponentLink9Description: https://datasheet.ciiva.com/14294/sn74hc595-14294991.pdf?src-supplier=Avnet; ComponentLink10URL: https://datasheet.ciiva.com/1886/sn74hc595-1886279.pdf?src-supplier=Digi-Key; ComponentLink10Description: https://datasheet.ciiva.com/1886/sn74hc595-1886279.pdf?src-supplier=Digi-Key; ComponentLink11URL: https://datasheet.ciiva.com/14294/sn74hc595-14294989.pdf?src-supplier=Avnet; ComponentLink11Description: https://datasheet.ciiva.com/14294/sn74hc595-14294989.pdf?src-supplier=Avnet; Supplier Part Number 1: 296-14857-6-ND
footprint SO16
pins: 1 Qb (out), 2 Qc (out), 3 Qd (out), 4 Qe (out), 5 Qf (out), 6 Qg (out), 7 Qh (out), 8 GND (power), 9 ~{Qh} (out), 10 ~{SRCLR} (in), 11 SRCLK (in), 12 RCLK (in), 13 ~{OE} (in), 14 SER (in), 15 Qa (out), 16 Vcc (power)

## SN75176ADR
designator U?
IC DIFF BUS TXRX 8-SOIC; Manufacturer: Texas Instruments; Number of Receivers: 1; Operating Supply Voltage: 5V; Min Supply Voltage: 4.75V; Max Supply Voltage: 5.25V; Nominal Supply Current: 50mA; Data Rate: 10Mbps; Logic Function: Transceiver; Simplex/Duplex: Half Duplex; ESD Protection: No; Supplier 1: Digi-Key; Manufacturer Part Number: SN75176ADR; Stock 1: 36770; Pricing 1: 1=1.46, 10=1.31, 100=1.021, 500=0.84346, 1000=0.6659 (USD); Case/Package: D; Number of Pins: 8; Weight: 0.002561oz; Contact Plating: Gold; Min Operating Temperature: 0°C; Max Operating Temperature: 70°C; Number of Transmitters: 1; Packaging: Tape and Reel; Package Quantity: 1; Number of Drivers: 1; Number of Transceivers: 1; Max Supply Current: 50mA; Length: 4.9mm; Height: 1.58mm; Width: 3.91mm; REACH SVHC: No SVHC; Lead Free: Lead Free; ComponentLink1URL: http://focus.ti.com/lit/ds/symlink/sn75176a.pdf?src-supplier=Avnet+Europe; ComponentLink1Description: http://focus.ti.com/lit/ds/symlink/sn75176a.pdf?src-supplier=Avnet+Europe; ComponentLink2URL: http://www.jameco.com/Jameco/Products/ProdDS/1054027.pdf?src-supplier=Jameco; ComponentLink2Description: http://www.jameco.com/Jameco/Products/ProdDS/1054027.pdf?src-supplier=Jameco; ComponentLink3URL: http://www.ti.com/general/docs/lit/getliterature.tsp?genericPartNumber=SN75176A&&fileType=pdf&src-supplier=Avnet; ComponentLink3Description: http://www.ti.com/general/docs/lit/getliterature.tsp?genericPartNumber=SN75176A&&fileType=pdf&src-supplier=Avnet; ComponentLink4URL: http://www.ti.com/lit/ds/symlink/sn75176a.pdf?src-supplier=Digi-Key; ComponentLink4Description: http://www.ti.com/lit/ds/symlink/sn75176a.pdf?src-supplier=Digi-Key; Supplier Part Number 1: 296-14955-6-ND
footprint SOP8
pins: 1 R, 2 ~{RE}, 3 DE, 4 D, 5 GND, 6 A, 7 B, 8 Vcc

## SOCKET_5.08_1X7_180_CLOSE
designator J?
TERM BLOCK HDR 7POS VERT 5.08MM; Manufacturer: On Shore Technology Inc.; Manufacturer Part Number: OSTOQ075450; Number of Positions: 7; Number of Levels: 1; Pitch: 0.200" (5.08mm); Header Orientation: Vertical; Contact Tail Length: 0.157" (4.00mm); Supplier 1: Digi-Key; RoHS: RoHS Compliant; Category: Connectors, Interconnects; Stock 1: 4154; Pricing 1: 1=0.97, 10=0.684, 25=0.6376, 50=0.5786, 100=0.576, 250=0.4864, 500=0.4608, 1000=0.4096, 5000=0.3328 (USD); Packaging: Bulk; Part Status: Active; Type: Header, Male Pins, Shrouded (4 Side); Positions Per Level: 7; Plug Wire Entry: -; Termination Style: -; Mounting Type: Solder; Current - IEC: -; Wire Gauge or Range - AWG: -; Wire Gauge or Range - mm²: -; Color: -; Operating Temperature: -30°C ~ 105°C; Contact Mating Finish: Tin; Features: -; Material Flammability Rating: -; Ingress Protection: -; Screw Size: -; Torque - Screw: -; Wire Strip Length: -; Contact Material: -; Housing Material: Brass; Insulation Height: 0.157" (4.00mm); ComponentLink1URL: http://www.on-shore.com/wp-content/uploads/2015/09/ostoqxx5450.pdf; ComponentLink1Description: http://www.on-shore.com/wp-content/uploads/2015/09/ostoqxx5450.pdf; Supplier Part Number 1: ED2848-ND
footprint SOCKET_5.08_1X7_180_CLOSE
pins: 1, 2, 3, 4, 5, 6, 7

## SOCKET_5.08_1X10_180_CLOSE
designator J?
TERM BLOCK HDR 10POS VERT 5.08MM; Manufacturer: On Shore Technology Inc.; Manufacturer Part Number: OSTOQ105450; Number of Positions: 10; Number of Levels: 1; Pitch: 0.200" (5.08mm); Header Orientation: Vertical; Contact Tail Length: 0.157" (4.00mm); Supplier 1: Digi-Key; RoHS: RoHS Compliant; Category: Connectors, Interconnects; Stock 1: 7503; Pricing 1: 1=1.39, 10=0.977, 25=0.9112, 50=0.8272, 100=0.8235, 250=0.6954, 500=0.6588, 1000=0.5856, 5000=0.4758 (USD); Packaging: Bulk; Part Status: Active; Type: Header, Male Pins, Shrouded (4 Side); Positions Per Level: 10; Plug Wire Entry: -; Termination Style: -; Mounting Type: Solder; Current - IEC: -; Wire Gauge or Range - AWG: -; Wire Gauge or Range - mm²: -; Color: -; Operating Temperature: -30°C ~ 105°C; Contact Mating Finish: Tin; Features: -; Material Flammability Rating: -; Ingress Protection: -; Screw Size: -; Torque - Screw: -; Wire Strip Length: -; Contact Material: -; Housing Material: Brass; Insulation Height: 0.157" (4.00mm); ComponentLink1URL: http://www.on-shore.com/wp-content/uploads/2015/09/ostoqxx5450.pdf; ComponentLink1Description: http://www.on-shore.com/wp-content/uploads/2015/09/ostoqxx5450.pdf; Supplier Part Number 1: ED2839-ND
footprint SOCKET_5.08_1X10_180_CLOSE
pins: 1, 2, 3, 4, 5, 6, 7, 8, 9, 10

## SOCKET_5.08_1X11_180_CLOSE
designator J?
TERM BLOCK HDR 11POS VERT 5.08MM; Manufacturer: Phoenix Contact; Manufacturer Part Number: 1755820; Number of Positions: 11; Number of Levels: 1; Pitch: 0.200" (5.08mm); Header Orientation: Vertical; Current - IEC: 12A; Material Flammability Rating: UL94 V-0; Contact Tail Length: 0.154" (3.90mm); Supplier 1: Digi-Key; RoHS: RoHS Compliant; Category: Connectors, Interconnects; Stock 1: 810; Pricing 1: 1=3.31, 10=3.221, 50=3.01, 100=2.7692, 250=2.55848, 500=2.4381, 1000=2.2876 (USD); Packaging: Bulk; Part Status: Active; Type: Header, Male Pins, Shrouded (4 Side); Positions Per Level: 11; Plug Wire Entry: -; Termination Style: Solder; Mounting Type: Through Hole; Wire Gauge or Range - AWG: -; Wire Gauge or Range - mm²: -; Color: Green; Operating Temperature: -; Contact Mating Finish: Tin; Features: -; Ingress Protection: -; Screw Size: -; Torque - Screw: -; Wire Strip Length: -; Contact Material: -; Housing Material: Polyamide (PA), Nylon; Insulation Height: 0.472" (12.00mm); ComponentLink1URL: https://media.digikey.com/pdf/Data%20Sheets/Phoenix%20Contact%20PDFs/1755820.pdf; ComponentLink1Description: https://media.digikey.com/pdf/Data%20Sheets/Phoenix%20Contact%20PDFs/1755820.pdf; Supplier Part Number 1: 277-1159-ND
footprint SOCKET_5.08_1X11_180_CLOSE
pins: 1, 2, 3, 4, 5, 6, 7, 8, 9, 10, 11

## SRR0745A-331M
designator L?, comment Inductor_330uH
Inductor_330uH_400mA_7.3x7.3mm BOURNS         SRR0745A-331M            Surface Mount Power Inductor, AEC-Q200 SRR0745A Series, 330 H,  20%, Shielded, 1.5 ohm, 340 mA; Core Material: Ferrite; Inductance: 330uh; Current Rating: 340mA; Saturation Current: 400mA; DC Resistance (DCR): 1.5R; Test Frequency: 1kHz; Supplier 1: Digi-Key; Manufacturer: Bourns; Manufacturer Part Number: SRR0745A-331M; Stock 1: 2778; Pricing 1: 1=0.97, 10=0.897, 100=0.6486, 500=0.4968 (USD); Mount: Surface Mount; Case/Package: Nonstandard; Min Operating Temperature: -40°C; Max Operating Temperature: 125°C; Tolerance: 20%; Inductance Tolerance: 20%; Packaging: Tape and Reel; Shielding: Shielded; RMS Current (Irms): 340mA; Termination: SMD/SMT; Length: 0.287inch; Width: 0.287inch; Height - Seated (Max): 0.185inch; Ratings: AEC-Q200; REACH SVHC: No SVHC; ComponentLink1URL: http://www.farnell.com/datasheets/1865600.pdf?src-supplier=Element14; ComponentLink1Description: http://www.farnell.com/datasheets/1865600.pdf?src-supplier=Element14; ComponentLink2URL: http://www.alliedelec.com/images/products/datasheets/bm/BOURNS/70480987.pdf?src-supplier=Allied+Electronics; ComponentLink2Description: http://www.alliedelec.com/images/products/datasheets/bm/BOURNS/70480987.pdf?src-supplier=Allied+Electronics; Supplier Part Number 1: SRR0745A-331MDKR-ND
footprint 330uH_7.3mmx7.3mm
pins: 1, 2

## SS14
designator D?
DIODE SCHOTTKY, SS14, 1A, 40V, SMD-ON SEMICONDUCTOR
footprint DO214AC(SMA)
pins: A Anot, K Katot

## SS8050CTA
designator Q?
TRANS NPN 25V 1.5A TO-92; Manufacturer: ON Semiconductor / Fairchild; Element Configuration: Single; Gain Bandwidth Product: 100MHz; Max Frequency: 1MHz; Max Power Dissipation: 1W; hFE Min: 85; Max Breakdown Voltage: 60V; Collector Base Voltage (VCBO): 40V; Emitter Base Voltage (VEBO): 6V; Collector Emitter Saturation Voltage: 500mV; Number of Elements: 1; Supplier 1: Digi-Key; Manufacturer Part Number: SS8050CTA; Stock 1: 10810; Pricing 1: 1 = 0,27000, 10 = 0,22300, 25 = 0,18640, 100 = 0,09110, 500 = 0,07596, 1000 = 0,05279 (USD); RoHS: Yes; Mount: Through Hole; Case/Package: TO-92-3; Number of Pins: 3; Contact Plating: Tin,Matte; Weight: 0.24g; Min Operating Temperature: -65°C; Max Operating Temperature: 150°C; Voltage Rating (DC): 25V; Current Rating: 1.5A; Frequency: 100MHz; Package Quantity: 2000; Collector Emitter Voltage (VCEO): 25V; Packaging: Ammo Pack; Max Collector Current: 1.5A; Transition Frequency: 100MHz; Collector Emitter Breakdown Voltage: 25V; Polarity: NPN; Power Dissipation: 1W; Length: 4.58mm; Width: 3.86mm; Height: 4.58mm; Radiation Hardening: No; Lead Free: Lead Free; REACH SVHC: No SVHC; ComponentLink1URL: https://datasheet.ciiva.com/14806/ss8050-14806891.pdf?src-supplier=Arrow+Electronics; ComponentLink1Description: https://datasheet.ciiva.com/14806/ss8050-14806891.pdf?src-supplier=Arrow+Electronics; ComponentLink2URL: https://datasheet.ciiva.com/11207/ss8050-11207509.pdf?src-supplier=Avnet; ComponentLink2Description: https://datasheet.ciiva.com/11207/ss8050-11207509.pdf?src-supplier=Avnet; ComponentLink3URL: https://datasheet.ciiva.com/6356/ss8050-6356150.pdf?src-supplier=Digi-Key; ComponentLink3Description: https://datasheet.ciiva.com/6356/ss8050-6356150.pdf?src-supplier=Digi-Key; ComponentLink4URL: https://datasheet.ciiva.com/46415/1869977-46415606.pdf?src-supplier=Element14; ComponentLink4Description: https://datasheet.ciiva.com/46415/1869977-46415606.pdf?src-supplier=Element14; ComponentLink5URL: https://datasheet.ciiva.com/17447/ss8050-17447831.pdf?src-supplier=Future+Electronics; ComponentLink5Description: https://datasheet.ciiva.com/17447/ss8050-17447831.pdf?src-supplier=Future+Electronics; ComponentLink6URL: https://datasheet.ciiva.com/6356/ss8050-6356153.pdf?src-supplier=Digi-Key; ComponentLink6Description: https://datasheet.ciiva.com/6356/ss8050-6356153.pdf?src-supplier=Digi-Key; ComponentLink7URL: https://datasheet.ciiva.com/4721/ss8050-117753-4721260.pdf?src-supplier=Mouser; ComponentLink7Description: https://datasheet.ciiva.com/4721/ss8050-117753-4721260.pdf?src-supplier=Mouser; Supplier Part Number 1: SS8050CTAFSCT-ND
footprint TO92-BentLead
footprint TO92
pins: 1 Collector, 2 Base, 3 Emiter

## SS8550CTA
designator Q?
TRANS PNP 25V 1.5A TO-92; Manufacturer: ON Semiconductor / Fairchild; Current Rating: -1.5A; Voltage Rating (DC): -25V; Transition Frequency: 200MHz; Element Configuration: Single; Max Frequency: 1MHz; Collector Base Voltage (VCBO): -40V; Emitter Base Voltage (VEBO): -6V; Collector Emitter Saturation Voltage: -280mV; Number of Elements: 1; Power Dissipation: 1W; hFE Min: 85; Supplier 1: Digi-Key; Manufacturer Part Number: SS8550CTA; Stock 1: 8838; Pricing 1: 1 = 0,30000, 10 = 0,24200, 25 = 0,20240, 100 = 0,09900, 500 = 0,08258, 1000 = 0,05738 (USD); RoHS: Yes; Mount: Through Hole; Case/Package: TO-92-3; Number of Pins: 3; Weight: 0.24g; Min Operating Temperature: -65°C; Max Operating Temperature: 150°C; Max Collector Current: 1.5A; Collector Emitter Breakdown Voltage: 25V; Gain Bandwidth Product: 200MHz; Polarity: PNP; Max Breakdown Voltage: 25V; Max Power Dissipation: 1W; Package Quantity: 2000; Packaging: Ammo Pack; Collector Emitter Voltage (VCEO): 25V; Frequency: 200MHz; Length: 5.2mm; Width: 4.19mm; Height: 5.33mm; Radiation Hardening: No; Lead Free: Lead Free; ComponentLink1URL: https://datasheet.ciiva.com/29571/ss8550-29571270.pdf?src-supplier=Digi-Key; ComponentLink1Description: https://datasheet.ciiva.com/29571/ss8550-29571270.pdf?src-supplier=Digi-Key; ComponentLink2URL: https://datasheet.ciiva.com/29571/ss8550-29571269.pdf?src-supplier=Digi-Key; ComponentLink2Description: https://datasheet.ciiva.com/29571/ss8550-29571269.pdf?src-supplier=Digi-Key; Supplier Part Number 1: SS8550CTACT-ND
footprint TO92
footprint TO92-BentLead
pins: 1 Collector, 2 Base, 3 Emiter

## SSW-103-02-G-D-RA
designator J?, comment Pmod 2x6
CONN RCPT 6POS 0.1 GOLD PCB R/A; Manufacturer: Samtec; Manufacturer Part Number: SSW-103-02-G-D-RA; Connector Type: Receptacle,Socket; Number of Positions: 6; Gender: Receptacle; Max Voltage Rating (AC): 550V; Max Current Rating: 6.9A; Mating Cycles: 100; Contact Resistance: 10mR; Pitch: 2.54mm; Row Spacing: 0.1inch; Supplier 1: Digi-Key; Stock 1: 901; Pricing 1: 1 = 1,06000, 10 = 0,93100, 25 = 0,87600, 50 = 0,83960, 100 = 0,80310, 250 = 0,73008, 500 = 0,65708 (USD); RoHS: Yes; Mount: Through Hole; Contact Plating: Gold; Contact Material: Bronze; Color: Black; Housing Material: Polymer; Housing Color: Black; Min Operating Temperature: -55°C; Max Operating Temperature: 125°C; Termination: Solder; Number of Contacts: 6; Number of Rows: 2; Packaging: Bulk; Orientation: Right Angle; Current Rating: 6.9A; Voltage Rating: 550V; Length: 8.13mm; Depth: 12.57mm; Radiation Hardening: No; Lead Free: Lead Free; REACH SVHC: No SVHC; ComponentLink1URL: https://datasheet.ciiva.com/25617/0900766b8115c03d-25617326.pdf?src-supplier=RSComponents; ComponentLink1Description: https://datasheet.ciiva.com/25617/0900766b8115c03d-25617326.pdf?src-supplier=RSComponents; ComponentLink2URL: https://datasheet.ciiva.com/22677/82032-22677488.pdf?src-supplier=Element14; ComponentLink2Description: https://datasheet.ciiva.com/22677/82032-22677488.pdf?src-supplier=Element14; ComponentLink3URL: https://datasheet.ciiva.com/750/ssw-1xx-xx-xxx-x-xx-xxx-xx-mkt-750174.pdf?src-supplier=Digi-Key; ComponentLink3Description: https://datasheet.ciiva.com/750/ssw-1xx-xx-xxx-x-xx-xxx-xx-mkt-750174.pdf?src-supplier=Digi-Key
pins: 1, 2, 3, 4, 5, 6, 7, 8, 9, 10, 11, 12